# Altium schematic symbol library STM32F4xx.SchLib: 15 symbols
Pins are listed as number, name and electrical type; pins without a type are passive.

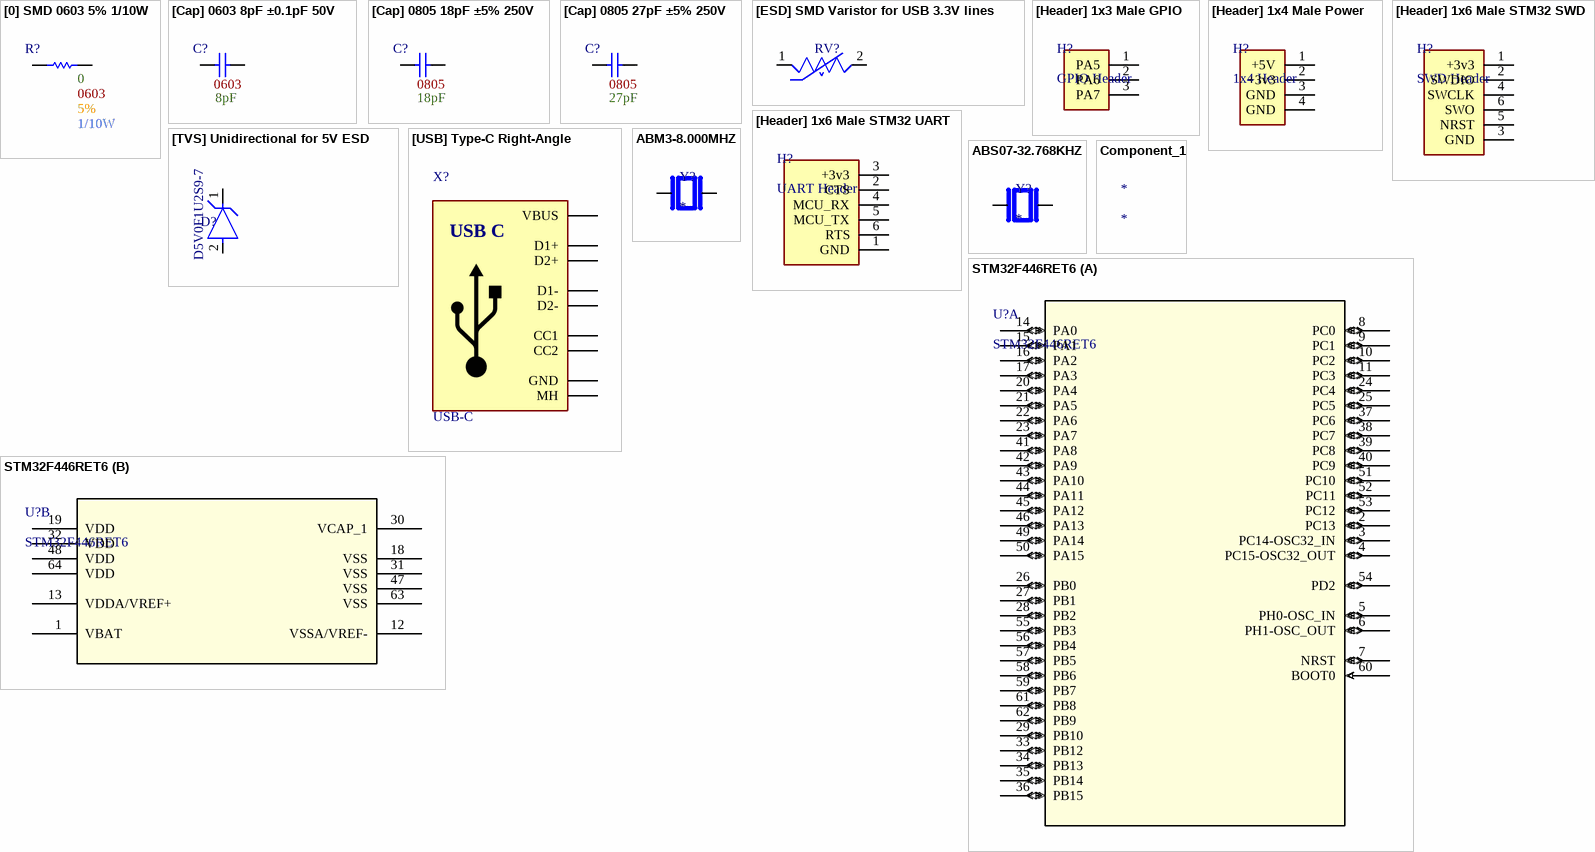
[diagram p0: symbols [0] SMD 0603 5% 1/10W to STM32F446RET6]

## [0] SMD 0603 5% 1/10W
designator R?  Resistance: 0  Size Package: 0603  Tolerance: 5%  Wattage: 1/10W  (hidden comment: *)
RC0603JR-070RL; MF: Yageo; SnapEDA_Link: https://www.snapeda.com/parts/RC0603JR-070RL/Yageo/view-part/?ref=snap; Package: 0603 Yageo; Value: *; MP: RC0603JR-070RL; Check_prices: https://www.snapeda.com/parts/RC0603JR-070RL/Yageo/view-part/?ref=eda; Supplier 1: Avnet; Supplier Part Number 1: RC0603JR-070RL
footprint [0] SMD 0603 5% 1/10W
pins: 1, 2

## [Cap] 0603 8pF ±0.1pF 50V
designator C?, comment Siz: 0603  (hidden comment: 8pF)
GRM1555C1H8R0BA01D; Manufacturer_Name: Murata; Copyright: Copyright (C) 2026 Ultra Librarian. All rights reserved.; Manufacturer_Part_Number: GRM1555C1H8R0BA01D; Digi-Key_Part_Number_1: 490-8230-1-ND; Digi-Key_Part_Number_2: 490-8230-2-ND; Digi-Key_Part_Number_3: 490-8230-6-ND; Supplier 1: Arrow Electronics; Capacitance: 8pF
footprint [Cap] 0603 8pF ±0.1pF 50V
pins: 1, 2

## [Cap] 0805 18pF ±5% 250V
designator C?  Size: 0805  Capacitance: 18pF  (hidden comment: *)
GQM2195C2E180JB12D; MF: Murata; MP: GQM2195C2E270JB12D; SnapEDA_Link: https://www.snapeda.com/parts/GQM2195C2E270JB12D/Murata/view-part/?ref=snap; Package: 2012 Murata; Check_prices: https://www.snapeda.com/parts/GQM2195C2E270JB12D/Murata/view-part/?ref=eda; Supplier 1: Arrow Electronics
footprint [Cap] 0805 ±5% 250V
pins: 1, 2

## [Cap] 0805 27pF ±5% 250V
designator C?  Size: 0805  Capacitance: 27pF  (hidden comment: *)
GQM2195C2E270JB12D; MF: Murata; SnapEDA_Link: https://www.snapeda.com/parts/GQM2195C2E270JB12D/Murata/view-part/?ref=snap; Package: 2012 Murata; MP: GQM2195C2E270JB12D; Check_prices: https://www.snapeda.com/parts/GQM2195C2E270JB12D/Murata/view-part/?ref=eda; Supplier 1: Arrow Electronics; Supplier Part Number 1: GQM2195C2E270JB12D
footprint [Cap] 0603 8pF ±0.1pF 50V
pins: 1, 2

## [ESD] SMD Varistor for USB 3.3V lines
designator RV?  (value not drawn)
Varistor 1 Circuit Surface Mount, MLCV 0603 (1608 Metric) CG0603MLU-05E; MF: Bourns; SnapEDA_Link: https://www.snapeda.com/parts/CG0603MLU-05E/Bourns/view-part/?ref=snap; Package: 0603 Bourns; Value: *; MP: CG0603MLU-05E; Check_prices: https://www.snapeda.com/parts/CG0603MLU-05E/Bourns/view-part/?ref=eda; Supplier 1: Avnet
footprint [ESD] SMD Varistor for USB 3.3V lines
pins: 1, 2

## [Header] 1x3 Male GPIO
designator H?, comment GPIO Header
2.54mm pitch
footprint [Header] 1x3 Male GPIO
pins: 1 PA5, 2 PA6, 3 PA7

## [Header] 1x4 Male Power
designator H?, comment 1x4 Header
2.54mm pitch
footprint [Header] 1x4 Male Power (2.54mm pitch)
pins: 1 +5V, 2 +3v3, 3 GND, 4 GND

## [Header] 1x6 Male STM32 SWD
designator H?, comment SWD Header
2.54mm pitch
footprint [Header] 1x6 Male STM32 SWD
pins: 1 +3v3, 2 SWDIO, 3 GND, 4 SWCLK, 5 NRST, 6 SWO

## [Header] 1x6 Male STM32 UART
designator H?, comment UART Header
2.54mm pitch
footprint [Header] 1x6 Male STM32 UART
pins: 1 GND, 2 CTS, 3 +3v3, 4 MCU_RX, 5 MCU_TX, 6 RTS

## [TVS] Unidirectional for 5V ESD
designator D?, comment Cathode side marked by line  (value not drawn)
D5V0F1U2S9-7; Manufacturer_Name: Diodes Inc; Reverse Breakdown Voltage: 5.5V; Copyright: Copyright (C) 2025 Ultra Librarian. All rights reserved.; Manufacturer_Part_Number: D5V0F1U2S9-7; Supplier 1: Avnet; Size Package: 0603; Supplier Part Number 1: D5V0F1U2S9-7
footprint [TVS] Unidirectional for 5V ESD
pins: 1, 2

## [USB] Type-C Right-Angle
designator X?, comment USB-C
Supplier 1: DigiKey; Supplier Part Number 1: 670-3104-1-ND
footprint [USB] USB-C Right-Angle
pins: A1 GND, A4 VBUS, A5 CC1, A6 D1+, A7 D1-, A9 VBUS, A12 GND, B1 GND, B4 VBUS, B5 CC2, B6 D2+, B7 D2-, B9 VBUS, B12 GND, MH
text: USB C

## ABM3-8.000MHZ
designator Y?
ABM3-8.000MHZ-D2Y-T, 8 MHz Â±20ppm Crystal 18pF 140 Ohms 2-SMD, No Lead; MF: Abracon; Purchase-URL: https://pricing.snapeda.com/search/part/ABM3-8.000MHZ-D2Y-T/?ref=eda; MP: ABM3-8.000MHZ-D2Y-T; SnapEDA_Link: https://www.snapeda.com/parts/ABM3-8.000MHZ-D2Y-T/Abracon+LLC/view-part/?ref=snap; Value: *; Package: SMD-2 Abracon; Price: None; Availability: In Stock; Check_prices: https://www.snapeda.com/parts/ABM3-8.000MHZ-D2Y-T/Abracon+LLC/view-part/?ref=eda; Supplier 1: Arrow Electronics; Supplier Part Number 1: ABM3-8.000MHZ-D2Y-T
footprint ABM3-8.000MHZ
pins: 1, 2

## ABS07-32.768KHZ
designator Y?
ABS07-32.768KHZ-9-T, 32.768 kHz Â±20ppm Crystal 9pF 70 kOhms 2-SMD, No Lead; MF: Abracon; SnapEDA_Link: https://www.snapeda.com/parts/ABS07-32.768KHZ-9-T/Abracon/view-part/?ref=snap; Package: SMD-2 Abracon LLC; Value: *; MP: ABS07-32.768KHZ-9-T; Check_prices: https://www.snapeda.com/parts/ABS07-32.768KHZ-9-T/Abracon/view-part/?ref=eda; Supplier 1: Arrow Electronics; Supplier Part Number 1: ABS07-32.768KHZ-T
footprint ABS07-32.768KHZ
pins: 1, 2

## Component_1
designator *

## STM32F446RET6
designator U?
High-performance foundation line, Arm Cortex-M4 core with DSP and FPU, 512 Kbytes of Flash memory, 180 MHz CPU, ART Accelerator, Dual QSPI; Manufacturer_Name: STMicroelectronics; Copyright: Copyright (C) 2025 Ultra Librarian. All rights reserved.; Manufacturer_Part_Number: STM32F446RET6; RefDes: RefDes; Type: Type; Supplier 1: Avnet; Supplier Part Number 1: 52Y1122
footprint STM32F446RET6
part A pins: 2 PC13 (io), 3 PC14-OSC32_IN (io), 4 PC15-OSC32_OUT (io), 5 PH0-OSC_IN (io), 6 PH1-OSC_OUT (io), 7 NRST (io), 8 PC0 (io), 9 PC1 (io), 10 PC2 (io), 11 PC3 (io), 14 PA0 (io), 15 PA1 (io), 16 PA2 (io), 17 PA3 (io), 20 PA4 (io), 21 PA5 (io), 22 PA6 (io), 23 PA7 (io), 24 PC4 (io), 25 PC5 (io), 26 PB0 (io), 27 PB1 (io), 28 PB2 (io), 29 PB10 (io), 33 PB12 (io), 34 PB13 (io), 35 PB14 (io), 36 PB15 (io), 37 PC6 (io), 38 PC7 (io), 39 PC8 (io), 40 PC9 (io), 41 PA8 (io), 42 PA9 (io), 43 PA10 (io), 44 PA11 (io), 45 PA12 (io), 46 PA13 (io), 49 PA14 (io), 50 PA15 (io), 51 PC10 (io), 52 PC11 (io), 53 PC12 (io), 54 PD2 (io), 55 PB3 (io), 56 PB4 (io), 57 PB5 (io), 58 PB6 (io), 59 PB7 (io), 60 BOOT0 (in), 61 PB8 (io), 62 PB9 (io)
part B pins: 1 VBAT (power), 12 VSSA/VREF- (power), 13 VDDA/VREF+ (power), 18 VSS (power), 19 VDD (power), 30 VCAP_1 (power), 31 VSS (power), 32 VDD (power), 47 VSS (power), 48 VDD (power), 63 VSS (power), 64 VDD (power)